# EAGLE library part 7107 (library #PaJa_31)
IO - A/D prevodnik + budic 7seg. displeje (3 a 1/2 mistny)
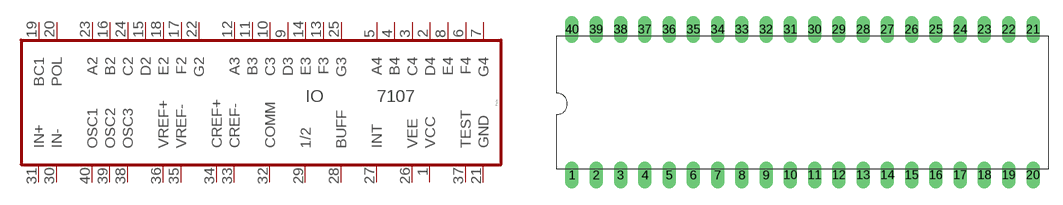
[diagram p10: symbol with the pads of DIL40; footprint DIL40]

Designator prefix IO

## 7107  [DIL40]
1  VCC  pwr
2  D4  pas
3  C4  pas
4  B4  pas
5  A4  pas
6  F4  pas
7  G4  pas
8  E4  pas
9  D3  pas
10  C3  pas
11  B3  pas
12  A3  pas
13  F3  pas
14  E3  pas
15  D2  pas
16  B2  pas
17  F2  pas
18  E2  pas
19  BC1  pas
20  POL  pas
21  GND  pas
22  G2  pas
23  A2  pas
24  C2  pas
25  G3  pas
26  VEE  pwr
27  INT  pas
28  BUFF  pas
29  1/2  pas
30  IN-  pas
31  IN+  pas
32  COMM  pas
33  CREF-  pas
34  CREF+  pas
35  VREF-  pas
36  VREF+  pas
37  TEST  pas
38  OSC3  pas
39  OSC2  pas
40  OSC1  pas

## Footprint DIL40 (pad centres in mm)
drill 0.813 pad 1.4 long: 1 -22.86,-7.62; 2 -20.32,-7.62; 3 -17.78,-7.62; 4 -15.24,-7.62; 5 -12.7,-7.62; 6 -10.16,-7.62; 7 -7.62,-7.62; 8 -5.08,-7.62; 9 -2.54,-7.62; 10 0,-7.62; 11 2.54,-7.62; 12 5.08,-7.62; 13 7.62,-7.62; 14 10.16,-7.62; 15 12.7,-7.62; 16 15.24,-7.62; 17 17.78,-7.62; 18 20.32,-7.62; 19 22.86,-7.62; 20 25.4,-7.62; 21 25.4,7.62; 22 22.86,7.62; 23 20.32,7.62; 24 17.78,7.62; 25 15.24,7.62; 26 12.7,7.62; 27 10.16,7.62; 28 7.62,7.62; 29 5.08,7.62; 30 2.54,7.62; 31 0,7.62; 32 -2.54,7.62; 33 -5.08,7.62; 34 -7.62,7.62; 35 -10.16,7.62; 36 -12.7,7.62; 37 -15.24,7.62; 38 -17.78,7.62; 39 -20.32,7.62; 40 -22.86,7.62